# Altium schematic symbol library SCH - ARM CORTEX - NXP LPC845M301JHI48.SchLib: 1 symbol
Pins are listed as number, name and electrical type; pins without a type are passive.

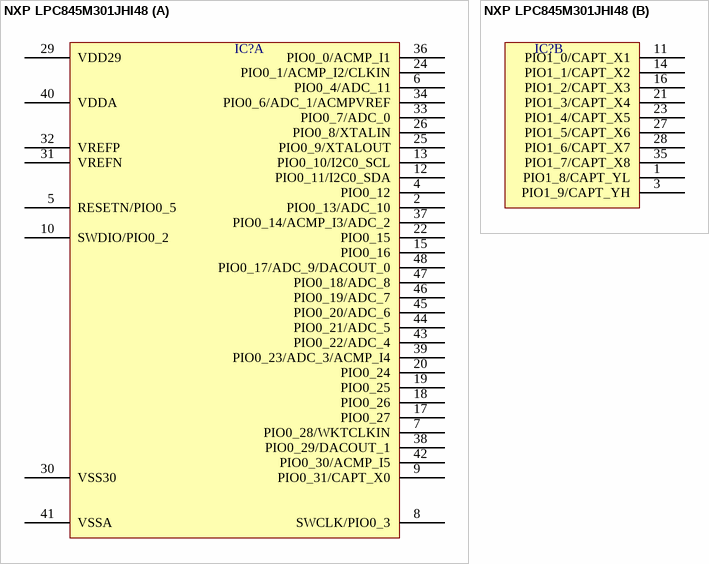
[diagram p0: symbol NXP LPC845M301JHI48]

## NXP LPC845M301JHI48
designator IC?  (value not drawn)
part A pins: 2 PIO0_13/ADC_10, 4 PIO0_12, 5 RESETN/PIO0_5, 6 PIO0_4/ADC_11, 7 PIO0_28/WKTCLKIN, 8 SWCLK/PIO0_3, 9 PIO0_31/CAPT_X0, 10 SWDIO/PIO0_2, 12 PIO0_11/I2C0_SDA, 13 PIO0_10/I2C0_SCL, 15 PIO0_16, 17 PIO0_27, 18 PIO0_26, 19 PIO0_25, 20 PIO0_24, 22 PIO0_15, 24 PIO0_1/ACMP_I2/CLKIN, 25 PIO0_9/XTALOUT, 26 PIO0_8/XTALIN, 29 VDD29, 30 VSS30, 31 VREFN, 32 VREFP, 33 PIO0_7/ADC_0, 34 PIO0_6/ADC_1/ACMPVREF, 36 PIO0_0/ACMP_I1, 37 PIO0_14/ACMP_I3/ADC_2, 38 PIO0_29/DACOUT_1, 39 PIO0_23/ADC_3/ACMP_I4, 40 VDDA, 41 VSSA, 42 PIO0_30/ACMP_I5, 43 PIO0_22/ADC_4, 44 PIO0_21/ADC_5, 45 PIO0_20/ADC_6, 46 PIO0_19/ADC_7, 47 PIO0_18/ADC_8, 48 PIO0_17/ADC_9/DACOUT_0
part B pins: 1 PIO1_8/CAPT_YL, 3 PIO1_9/CAPT_YH, 11 PIO1_0/CAPT_X1, 14 PIO1_1/CAPT_X2, 16 PIO1_2/CAPT_X3, 21 PIO1_3/CAPT_X4, 23 PIO1_4/CAPT_X5, 27 PIO1_5/CAPT_X6, 28 PIO1_6/CAPT_X7, 35 PIO1_7/CAPT_X8